# Altium schematic symbol library XY-G485.Schlib: 1 symbol
Pins are listed as number, name and electrical type; pins without a type are passive.

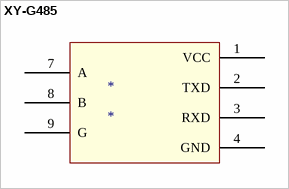
[diagram p0: symbol XY-G485]

## XY-G485
designator *
footprint XY-G485
pins: 1 VCC, 2 TXD, 3 RXD, 4 GND, 7 A, 8 B, 9 G